# Altium footprint library 电源插座.PcbLib: 8 footprints
Each footprint in its own frame and in the unit in brackets; x right, y up, seen from the top. Pads: shape width x height; smd on the part's side, far side on the other; paste and mask are expansions set on the pad; w line width, h text height; cw(c..) or ccw(c..) is an arc to the next point about the centre after c.
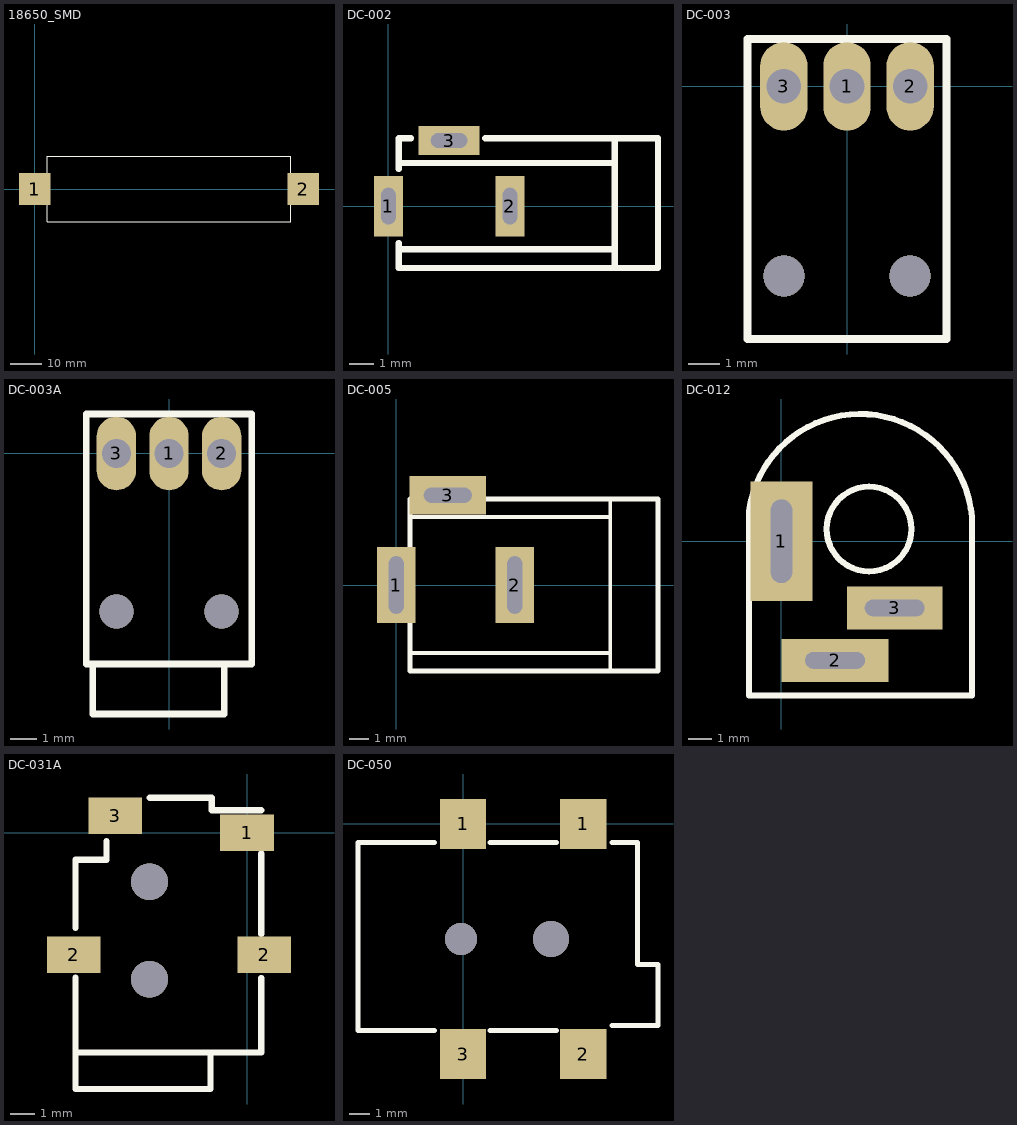
[diagram p0: the footprints below, top view; thin cyan lines are the x and y axes]

## 18650_SMD [mm]
pads (2):
  rect 10x10 smd mask+0.102: 1(0,0) 2(85,0)
Top Overlay:
  lines w0.254: 4,-10.4 4,10.4 81,10.4 81,-10.4 4,-10.4
3D body "3D_PCB1_2022-03-07.step": height 21.68, standoff 0.32, extent 3.641,-10.503 81.561,10.497

## DC-002 [mm] "3.5X1.1mm"
pads (3):
  rect 1.2x2.5 hole 0.6 slot 1.5 at 90 deg: 1(0,0) 2(5,0)
  rect 2.5x1.2 hole 0.6 slot 1.5 at 0 deg: 3(2.5,2.7)
Top Overlay:
  lines w0.254: 0.428,-1.778 9.318,-1.778 ; 0.428,-1.524 0.428,-2.54 11.096,-2.54 11.096,2.794 3.984,2.794 ; 0.428,1.524 0.428,2.794 0.936,2.794 ; 0.428,1.778 9.318,1.778 ; 9.318,-2.54 9.318,-1.778 ; 9.318,2.794 9.318,1.778 ; 9.318,-1.778 9.318,1.778
3D body "DC-002.STEP": height 7.3, standoff -3.4, extent -0.254,-2.548 11.046,2.802

## DC-003 [mm] "3.5X1.1mm"
pads (3):
  oval 1.5x2.8 hole 1.1: 1(0,0) 2(2,0) 3(-2,0)
via 2,-6 diameter 1.3 hole 1.3
via -2,-6 diameter 1.3 hole 1.3
Top Overlay:
  lines w0.254: -3.15,-8 3.15,-8 3.15,1.5 -3.15,1.5 -3.15,-8
3D body "DC-003.STEP": height 5.02, standoff -3.18, extent -3.175,-7.929 3.125,1.071

## DC-003A [mm] "3.5X1.1mm"
pads (3):
  oval 1.5x2.8 hole 1.1: 1(0,0) 2(2,0) 3(-2,0)
via -2,-6 diameter 1.3 hole 1.3
via 2,-6 diameter 1.3 hole 1.3
Top Overlay:
  lines w0.254: -2.896,-8 -2.896,-9.9 2.104,-9.9 2.104,-8 ; -3.15,-8 -3.15,1.5 3.15,1.5 3.15,-8 -3.15,-8
3D body "DC-003A.STEP": height 5.02, standoff -3.18, extent -3.175,-9.895 3.125,1.005

## DC-005 [mm] "5.5X2.1mm"
pads (3):
  rect 2x4 hole 0.8 slot 3 at 90 deg: 1(0,0) 2(6.2,0)
  rect 4x2 hole 0.8 slot 2.5 at 0 deg: 3(2.7,4.7)
Top Overlay:
  lines w0.2: 0.716,-3.556 11.2,-3.556 ; 0.716,3.556 11.2,3.556 ; 11.2,-4.5 11.2,4.5
  lines w0.254: 0.716,-4.5 0.716,4.5 13.7,4.5 13.7,-4.5 0.716,-4.5
3D body "DC-005.STEP": height 11.2, standoff -3.8, extent -0.404,-4.523 13.646,4.777

## DC-012 [mm] "5.5X2.1mm"
pads (3):
  rect 2.6x5 hole 0.9 slot 3.5 at 90 deg: 1(0,0)
  rect 4.5x1.8 hole 0.7 slot 2.5 at 0 deg: 2(2.25,-5)
  rect 4x1.8 hole 0.7 slot 2.5 at 0 deg: 3(4.75,-2.8)
Top Overlay:
  circle w0.254: c3.676,0.508 r1.778
  lines w0.254: -1.355,-6.477 8.001,-6.477 8.001,0.635 ccw(c3.302,0.635) -1.355,1.264 -1.355,-6.477
3D body "DC-012.STEP": height 13.6, standoff -4.4, extent -1.143,-6.389 7.857,4.611

## DC-031A [mm] "3.5X1.3mm"
pads (4):
  rect 2.2x1.5 smd: 1(0,0) 2(-7.1,-5) 2(0.7,-5) 3(-5.4,0.7)
via -4,-2 diameter 1.5 hole 1.5
via -4,-6 diameter 1.5 hole 1.5
Top Overlay:
  lines w0.254: -7.038,-8.976 -7.014,-9 -1.5,-9 ; -7.038,-5.928 -7.038,-10.5 -1.5,-10.5 -1.5,-9 ; -7.038,-3.896 -7.038,-1.102 -5.768,-1.102 -5.768,-0.34 ; -3.99,1.438 -1.45,1.438 -1.45,0.93 0.582,0.93 ; 0.582,-5.952 0.582,-9 -1.5,-9 ; 0.582,-4.15 0.582,-0.848
3D body "DC-031A.STEP": height 5, standoff -1.4, extent -7.813,-10.507 1.387,1.493

## DC-050 [mm] "5.5X2.1mm"
pads (4):
  rect 2.3x2.5 smd: 1(0,0) 1(6,0) 2(6,-11.5) 3(0,-11.5)
via -0.1,-5.75 diameter 1.6 hole 1.6
via 4.4,-5.75 diameter 1.8 hole 1.8
Top Overlay:
  lines w0.254: -1.442,-10.322 -5.252,-10.322 -5.252,-0.924 -1.442,-0.924 ; 1.352,-10.322 4.654,-10.322 ; 1.352,-0.924 4.654,-0.924 ; 7.448,-10.068 9.734,-10.068 9.734,-7.02 8.718,-7.02 8.718,-0.924 7.448,-0.924
3D body "DC-050.STEP": height 11, standoff -1.4, extent -5.114,-12.092 9.686,0.508